# Altium schematic symbol library LESD5D5.0CT1G.SchLib: 1 symbol
Pins are listed as number, name and electrical type; pins without a type are passive.

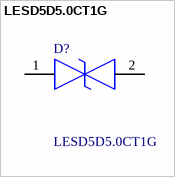
[diagram p0: symbol LESD5D5.0CT1G]

## LESD5D5.0CT1G
designator D?
Transient Voltage Suppressors for ESD Protection; Manufacturer_Name: LRC; Geometry.Height: 0.7mm; Manufacturer_Part_Number: LESD5D5.0CT1G; Mouser Part Number: *; Mouser Price/Stock: *; Arrow Part Number: *; Arrow Price/Stock: *; Datasheet Link: *
footprint LESD5D50CT1G
pins: 1, 2